# Altium integrated library IRFP240.IntLib: 1 symbol
Pins are listed as number, name and electrical type; pins without a type are passive.

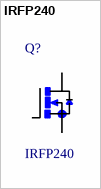
[diagram p0: symbol IRFP240]

## IRFP240
designator Q?
Trans MOSFET N-CH 200V 20A 3-Pin _3+Tab_ TO-247AC; MF: Vishay Siliconix; Availability: Warning; Price: None; Package: TO-247 Vishay; SnapEDA_Link: https://www.snapeda.com/parts/IRFP240/Vishay%20Siliconix/view-part/?ref=snap; MP: IRFP240; Value: *
footprint TO247AC
pins: 1 G, 2 D, 3 S